# Altium schematic symbol library Schlib1.SchLib: 16 symbols
Pins are listed as number, name and electrical type; pins without a type are passive.

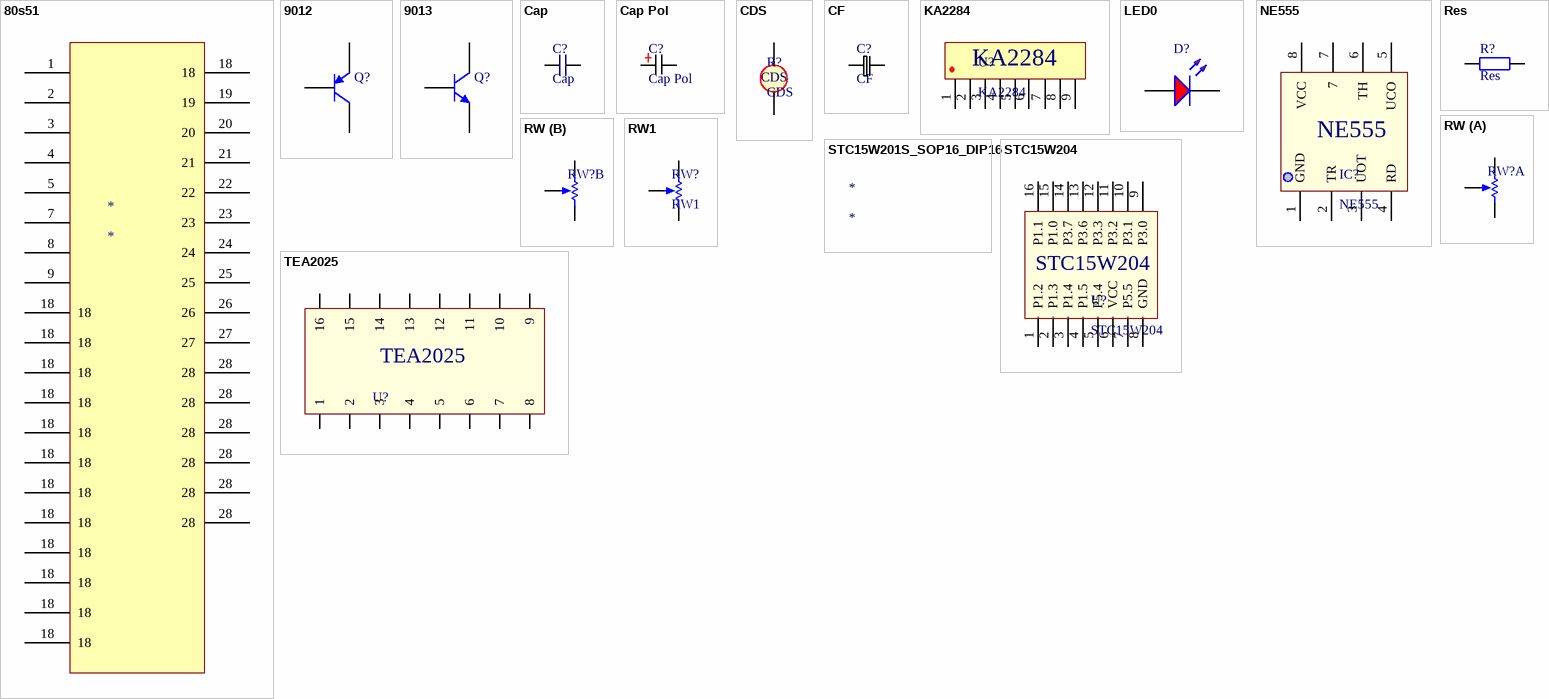
[diagram p0: symbols 80s51 to TEA2025]

## 80s51
designator *
pins: 1, 2, 3, 4, 5, 7, 8, 9, 18, 18, 18, 18, 18, 18, 18, 18, 18, 18, 18, 18, 18, 19, 20, 21, 22, 23, 24, 25, 26, 27, 28, 28, 28, 28, 28, 28

## 9012
designator Q?  (value not drawn)
PNP General Purpose Amplifier; Published: 8-Jun-2000; LatestRevisionDate: 15-Jan-2003; LatestRevisionNote: PCB Footprint 'BCY-W3/D4.7' replaced; DatasheetVersion: 1997; PackageVersion: Sep-1998; PackageReference: TO-92A; Publisher: Altium Limited; Code_JEDEC: TO-92A; ComponentLink1Description: Manufacturer Link; ComponentLink1URL: http://www.fairchildsemi.com/; ComponentLink2Description: Datasheet; ComponentLink2URL: http://www.fairchildsemi.com/ds/2N%2F2N3906.pdf
footprint T092
pins: 1 E, 2 B, 3 C

## 9013
designator Q?  (value not drawn)
NPN General Purpose Amplifier; Published: 8-Jun-2000; LatestRevisionDate: 15-Jan-2003; LatestRevisionNote: PCB Footprint 'BCY-W3/D4.7' replaced; DatasheetVersion: 1997; PackageVersion: Sep-1998; PackageReference: TO-92A; Publisher: Altium Limited; Code_JEDEC: TO-92A; ComponentLink1Description: Manufacturer Link; ComponentLink1URL: http://www.fairchildsemi.com/; ComponentLink2Description: Datasheet; ComponentLink2URL: http://www.fairchildsemi.com/ds/2N%2F2N3904.pdf
footprint T092
pins: 1 E, 2 B, 3 C

## Cap
designator C?
footprint RAD0.1
pins: 1, 2

## Cap Pol
designator C?
footprint CF0.1
pins: 1, 2

## CDS
designator R?
footprint CDS
pins: 1, 2

## CF
designator C?
footprint CF0.1
footprint CF0.1-6.5
footprint CF0.2-13
pins: 1, 2

## KA2284
designator U?
footprint SIP9
pins: 1, 2, 3, 4, 5, 6, 7, 8, 9

## LED0
designator D?  (value not drawn)
Published: 8-Jun-2000; LatestRevisionDate: 08-Jul-2005; LatestRevisionNote: Mech Layer 1 removed.; PackageReference: LED-0; Publisher: Altium Limited
footprint LED
pins: 1 A, 2 K

## NE555
designator IC?
footprint DIP-8 (DIP; 8 Leads; Row Spacing 7.62 mm; Pitch 2.54 mm)
pins: 1 GND, 2 TR, 3 UOT, 4 RD, 5 UCO, 6 TH, 7, 8 VCC

## Res
designator R?
Resistor; Value: 1K; Published: 8-Jun-2000; LatestRevisionDate: 17-Jul-2002; LatestRevisionNote: Re-released for DXP Platform.; PackageReference: AXIAL-0.4; Publisher: Altium Limited
footprint AXIAL-0.3 (Axial Device, Thru-Hole; 2 Leads; 0.3 in Pin Spacing)
pins: 1, 2

## RW
designator RW?  (value not drawn)
footprint RW
part A pins: 1 TOP, 2 TAP, 3 BOT
part B pins: 4 TOP, 5 TAP, 6 BOT

## RW1
designator RW?
footprint RW1
pins: 1 TOP, 2 TAP, 3 BOT

## STC15W201S_SOP16_DIP16
designator *

## STC15W204
designator U?
footprint SOP16 - duplicate
pins: 1 P1.2, 2 P1.3, 3 P1.4, 4 P1.5, 5 P5.4, 6 VCC, 7 P5.5, 8 GND, 9 P3.0, 10 P3.1, 11 P3.2, 12 P3.3, 13 P3.6, 14 P3.7, 15 P1.0, 16 P1.1

## TEA2025
designator U?  (value not drawn)
footprint DIP16
pins: 1, 2, 3, 4, 5, 6, 7, 8, 9, 10, 11, 12, 13, 14, 15, 16